# Altium footprint library IDC9176.PcbLib: 1 footprints
Each footprint in its own frame and in the unit in brackets; x right, y up, seen from the top. Pads: shape width x height; smd on the part's side, far side on the other; paste and mask are expansions set on the pad; w line width, h text height; cw(c..) or ccw(c..) is an arc to the next point about the centre after c.
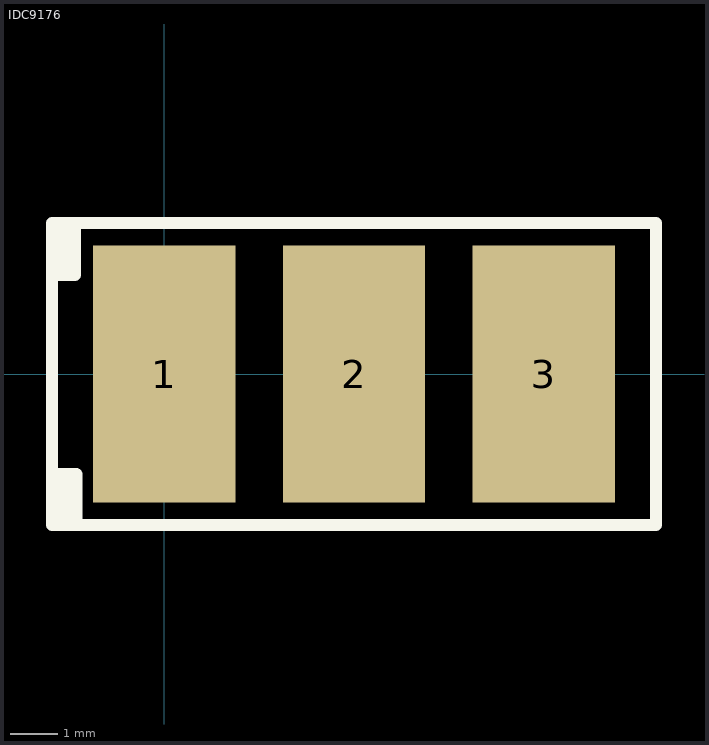
[diagram p0: the footprint, top view; thin cyan lines are the x and y axes]

## IDC9176 [mil] "Wire to Board Strip IDC Connector"
height 5.1
pads (3):
  rect 118x213 smd: 1(0,0) 2(157,0) 3(314,0)
TopOverlay:
  lines w10: -92,82 -74,82 -74,125 ; -91,-83 -73,-83 -73,-125 ; -84,84 -84,120 ; -83,-83 -83,-119 ; -73,-106 -81,-98 -83,-98 -80,-95 -80,-92 -73,-99 -73,-109 -83,-119 ; -93,-125 -87,-119 -83,-119 ; -93,-125 407,-125 407,125 -93,125 -93,-125